# EAGLE library part MOLEX-8PIN-BASE (library kmarx1)
Molex 8-pin header 22-03-2081,KK SERIES,FL,ST,TIN
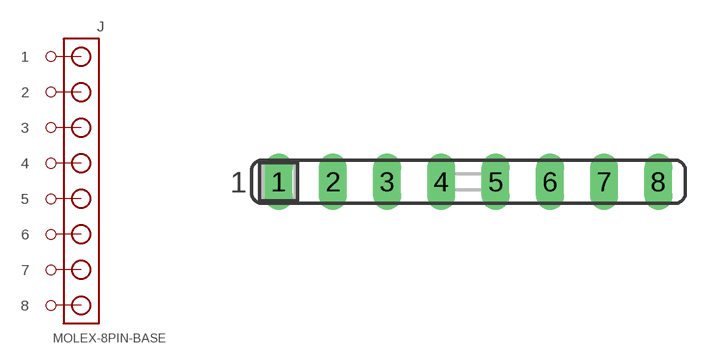
[diagram p2: symbol with the pads of SIL8; footprint SIL8]

Designator prefix J

## MOLEX-8PIN-BASE  [SIL8]
1  1  pas
2  2  pas
3  3  pas
4  4  pas
5  5  pas
6  6  pas
7  7  pas
8  8  pas

## Footprint SIL8 (pad centres in mm)
drill 0.813 long: 1 -8.89,0; 2 -6.35,0; 3 -3.81,0; 4 -1.27,0; 5 1.27,0; 6 3.81,0; 7 6.35,0; 8 8.89,0